# Altium schematic symbol library Schematic_LED.SchLib: 3 symbols
Pins are listed as number, name and electrical type; pins without a type are passive.

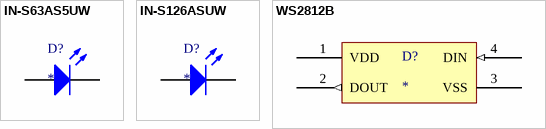
[diagram p0: symbols IN-S63AS5UW to WS2812B]

## IN-S63AS5UW
designator D?
SMD LED - Mono Color Side View, 0.6T 0604 side view LED PCB Type, White, High Brightness, Clear Lens, Angle 120; Manufacturer: Inolux; Manufacturer Part Number: IN-S63AS5UW; Lens Style: Flat; Luminous Intensity: 285mcd; Forward Voltage: 2.9V; Test Current: 5mA; Viewing Angle: 120°; Lens Size: 0.6mm; Supplier 1: Digikey; RoHS: No; Category: LEDs; Stock 1: 14164; Pricing 1: 1=0.25, 10=0.167, 100=0.1172, 500=0.0942, 1000=0.08659, 2000=0.08011 (USD); Mounting Technology: Surface Mount; Case/Package: SMD/SMT; Color: White; Lens Color: Clear; Packaging: Cut Tape; Lens Transparency: Clear; Series: IN-S63AS; Length: 1.7mm; Width: 1.1mm; Height: 0.6mm; ComponentLink1URL: http://www.inolux-corp.com/datasheet/SMDLED/Mono%20Color%20Side%20View/IN-S63AS%20Series_V1.0.pdf?src-supplier=Digikey; ComponentLink1Description: http://www.inolux-corp.com/datasheet/SMDLED/Mono%20Color%20Side%20View/IN-S63AS%20Series_V1.0.pdf?src-supplier=Digikey; ComponentLink2URL: https://datasheet.octopart.com/IN-S63AS5UW-Inolux-datasheet-178049125.pdf?src-supplier=TME; ComponentLink2Description: https://datasheet.octopart.com/IN-S63AS5UW-Inolux-datasheet-178049125.pdf?src-supplier=TME
footprint IN-S63AS5UW (LED WHITE CLEAR 0603 SMD R/A)
pins: 1 K, 2 A

## IN-S126ASUW
designator D?
SMD LED - Mono Color Side View, 1.0T 1206 side view LED PCB Type, White, High Brightness, Clear Lens, Angle 120; Manufacturer: Inolux; Manufacturer Part Number: IN-S126ASUW; Lens Style: Domed; Luminous Intensity: 720mcd; Forward Voltage: 3V; Test Current: 20mA; Viewing Angle: 120°; Lens Size: 1mm; Supplier 1: Digikey; RoHS: No; Category: LEDs; Stock 1: 9144; Pricing 1: 1=0.33, 10=0.226, 100=0.1601, 500=0.1299, 1000=0.11995 (USD); Mounting Technology: Surface Mount; Case/Package: SMD/SMT; Color: White; Lens Color: Clear; Packaging: Cut Tape; Lens Transparency: Clear; Series: IN-S126AS; Length: 3.2mm; Width: 1.5mm; Height: 1mm; ComponentLink1URL: http://www.inolux-corp.com/datasheet/SMDLED/Mono%20Color%20Side%20View/IN-S126AS%20Series_V1.0.pdf?src-supplier=Digikey; ComponentLink1Description: http://www.inolux-corp.com/datasheet/SMDLED/Mono%20Color%20Side%20View/IN-S126AS%20Series_V1.0.pdf?src-supplier=Digikey; ComponentLink2URL: https://datasheet.octopart.com/IN-S126ASUW-Inolux-datasheet-166814120.pdf?src-supplier=TME; ComponentLink2Description: https://datasheet.octopart.com/IN-S126ASUW-Inolux-datasheet-166814120.pdf?src-supplier=TME
footprint IN-S126ASUW (LED WHITE CLEAR 1206 SMD R/A)
pins: 1 K, 2 A

## WS2812B
designator D?
NeoPixel 5050 RGB LED with Integrated Driver Chip; Manufacturer: Adafruit Industries; Manufacturer Part Number: 1655; Color: Blue; Number of LEDs: 10; Supplier 1: Digi-Key; Stock 1: 4542; Pricing 1: 1 = 4.50000 (USD); Mount: Surface Mount; Length: 5mm; Width: 5mm; ComponentLink1URL: http://www.mouser.com/ds/2/737/SK6812_LED_datasheet_-953546.pdf?src-supplier=Mouser; ComponentLink1Description: http://www.mouser.com/ds/2/737/SK6812_LED_datasheet_-953546.pdf?src-supplier=Mouser; ComponentLink2URL: https://cdn-shop.adafruit.com/product-files/1138/SK6812+LED+datasheet+.pdf?src-supplier=Digi-Key; ComponentLink2Description: https://cdn-shop.adafruit.com/product-files/1138/SK6812+LED+datasheet+.pdf?src-supplier=Digi-Key; ComponentLink3URL: http://datasheet.octopart.com/ADA1655-Adafruit-Industries-datasheet-32028139.pdf; ComponentLink3Description: http://datasheet.octopart.com/ADA1655-Adafruit-Industries-datasheet-32028139.pdf
footprint 5050 (5050, 4-Leads, Body 5.00x5.00mm, Pitch 4.9mm, IPC Medium Density)
pins: 1 VDD (power), 2 DOUT (out), 3 VSS (power), 4 DIN (in)